# Altium integrated library mycar_batchargepcb.IntLib: 45 symbols
Pins are listed as number, name and electrical type; pins without a type are passive.

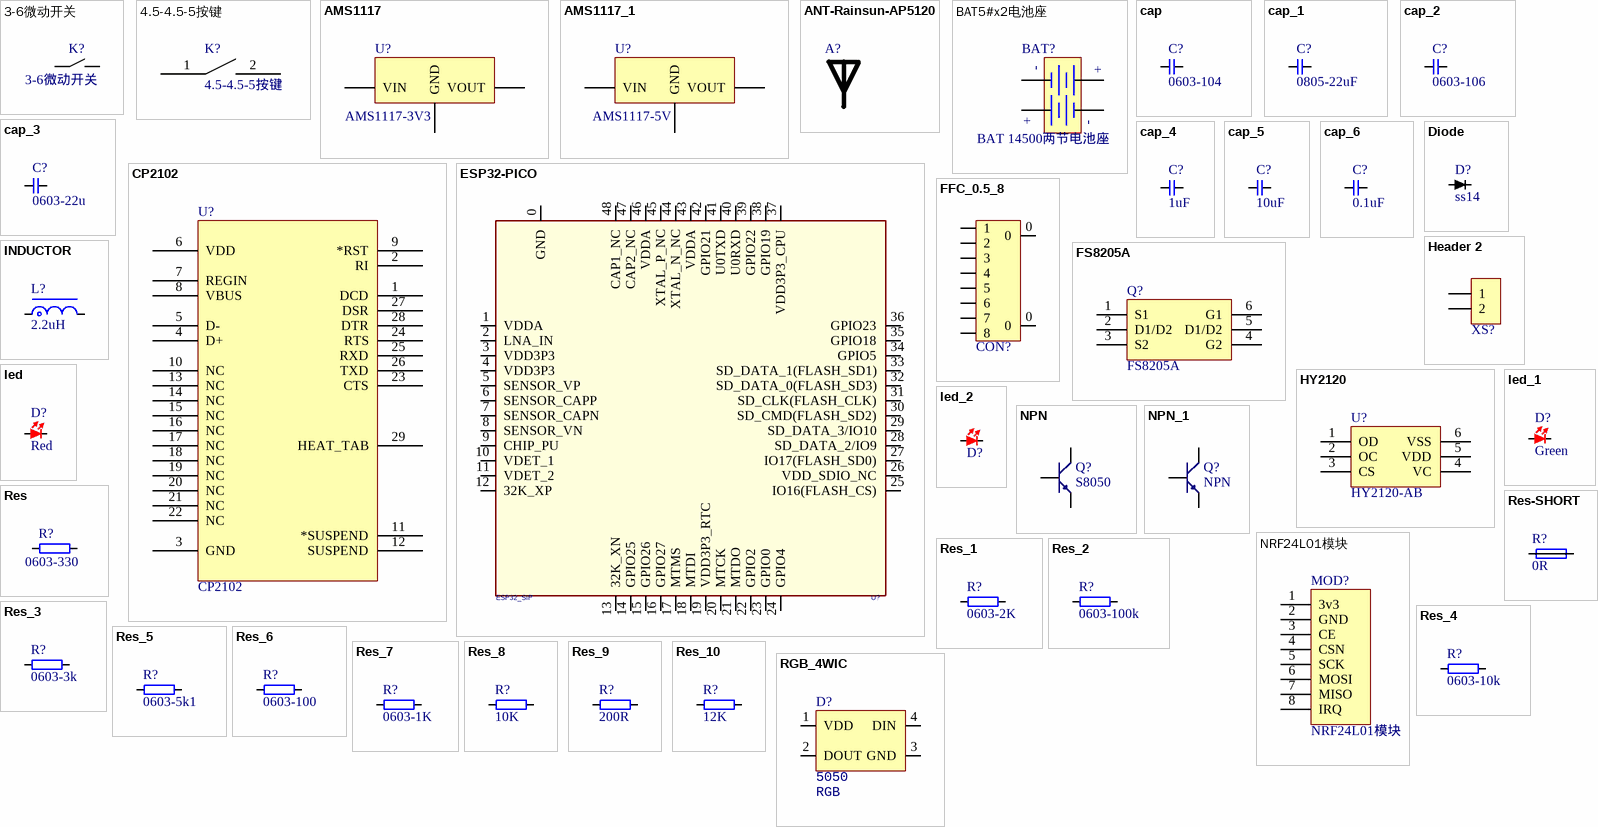
[diagram p0: symbols 3-6微动开关 to RGB_4WIC]

## 3-6微动开关
designator K?
3*6mm
footprint 3-6微动开关
pins: 1, 2

## 4.5-4.5-5按键
designator K?
footprint 4.5-4.5-5按键
pins: 1, 2

## AMS1117
designator U?, comment AMS1117-3V3
footprint SOT223
pins: 1 GND, 2 VOUT, 3 VIN

## AMS1117_1
designator U?, comment AMS1117-5V
footprint SOT223
pins: 1 GND, 2 VOUT, 3 VIN

## ANT-Rainsun-AP5120
designator A?, comment RAINSUN  (value not drawn)
footprint ANT-Rainsun-AN5120 (选择焊盘)
pins: 1

## BAT5#x2电池座
designator BAT?, comment BAT 14500两节电池座
footprint BAT5#x2 电池座 (14500两节电池座)
pins: 1 +, 2 -, 3 +, 4 -

## cap
designator C?, comment 0603-104
footprint Cap 1812 (无极性贴片电容)
footprint CAP_0603
footprint CAP_0805 (无极性贴片电容)
footprint CAP_0402
pins: 1, 2

## cap_1
designator C?, comment 0805-22uF
footprint Cap 1812 (无极性贴片电容)
footprint CAP_0603
footprint CAP_0805 (无极性贴片电容)
footprint CAP_0402
pins: 1, 2

## cap_2
designator C?, comment 0603-106
footprint Cap 1812 (无极性贴片电容)
footprint CAP_0603
footprint CAP_0805 (无极性贴片电容)
footprint CAP_0402
pins: 1, 2

## cap_3
designator C?, comment 0603-22u
footprint Cap 1812 (无极性贴片电容)
footprint CAP_0603
footprint CAP_0805 (无极性贴片电容)
footprint CAP_0402
pins: 1, 2

## cap_4
designator C?, comment 1uF
footprint Cap 1812 (无极性贴片电容)
footprint CAP_0603
footprint CAP_0805 (无极性贴片电容)
footprint CAP_0402
pins: 1, 2

## cap_5
designator C?, comment 10uF
footprint Cap 1812 (无极性贴片电容)
footprint CAP_0603
footprint CAP_0805 (无极性贴片电容)
footprint CAP_0402
pins: 1, 2

## cap_6
designator C?, comment 0.1uF
footprint Cap 1812 (无极性贴片电容)
footprint CAP_0603
footprint CAP_0805 (无极性贴片电容)
footprint CAP_0402
pins: 1, 2

## CP2102
designator U?
USB转TTL; PART DESC: SINGLE-CHIP USB TO UART BRIDGE, QFN28, RoHS.; MFG #1: SILICON LABS; PART NUMBER: CP2102; Value: Value; RefDes: RefDes; Type: DEV
footprint QFN-28
pins: 1 DCD, 2 RI, 3 GND, 4 D+, 5 D-, 6 VDD, 7 REGIN, 8 VBUS, 9 *RST, 10 NC, 11 *SUSPEND, 12 SUSPEND, 13 NC, 14 NC, 15 NC, 16 NC, 17 NC, 18 NC, 19 NC, 20 NC, 21 NC, 22 NC, 23 CTS, 24 RTS, 25 RXD, 26 TXD, 27 DSR, 28 DTR, 29 HEAT_TAB

## Diode
designator D?, comment ss14
footprint 二极管0805
footprint 二极管0603
footprint SMA/SMAF
footprint SOD-323 (1.8x1.3X0.9mm（长宽高，不包括引脚）)
pins: 1, 2

## ESP32-PICO
designator U?, comment ESP32_SIP
footprint QFN-48_7X7
pins: 0 GND (power), 1 VDDA (power), 2 LNA_IN, 3 VDD3P3 (power), 4 VDD3P3 (power), 5 SENSOR_VP, 6 SENSOR_CAPP, 7 SENSOR_CAPN, 8 SENSOR_VN, 9 CHIP_PU, 10 VDET_1, 11 VDET_2, 12 32K_XP, 13 32K_XN, 14 GPIO25, 15 GPIO26, 16 GPIO27, 17 MTMS, 18 MTDI, 19 VDD3P3_RTC (power), 20 MTCK, 21 MTDO, 22 GPIO2, 23 GPIO0, 24 GPIO4, 25 IO16(FLASH_CS), 26 VDD_SDIO_NC, 27 IO17(FLASH_SD0), 28 SD_DATA_2/IO9, 29 SD_DATA_3/IO10, 30 SD_CMD(FLASH_SD2), 31 SD_CLK(FLASH_CLK), 32 SD_DATA_0(FLASH_SD3), 33 SD_DATA_1(FLASH_SD1), 34 GPIO5, 35 GPIO18, 36 GPIO23, 37 VDD3P3_CPU (power), 38 GPIO19, 39 GPIO22, 40 U0RXD (power), 41 U0TXD (power), 42 GPIO21, 43 VDDA (power), 44 XTAL_N_NC, 45 XTAL_P_NC, 46 VDDA (power), 47 CAP2_NC, 48 CAP1_NC

## FFC_0.5_8
designator CON?  (value not drawn)
FFC; System: Connector
footprint FFC_0.5_8
pins: 0, 0, 1, 2, 3, 4, 5, 6, 7, 8

## FS8205A
designator Q?
2个N沟道 6A功率mos
footprint SOT23-6
pins: 1 S1, 2 D1/D2, 3 S2, 4 G2, 5 D1/D2, 6 G1

## Header 2
designator XS?, comment HDR-1X2  (value not drawn)
2P接插件; 版权归属: 源创客; BOM名称: 2P接插件; 学习资源: www.ooocke.com
footprint 15EDGVM-2P
footprint HDR2
footprint SSP-2P (single sided pad 单面焊盘)
pins: 1, 2

## HY2120
designator U?, comment HY2120-AB
footprint SOT23-6
pins: 1 OD, 2 OC, 3 CS, 4 VC, 5 VDD, 6 VSS

## INDUCTOR
designator L?, comment 2.2uH
footprint 0630电感
footprint NR4030 (4.3*4.3*3.0mm)
footprint 电感0603
footprint 直插电感
footprint NR4012 (4.3*4.3*1.2mm)
footprint NR8040 (8.3*8.3*4.0mm)
footprint NR3015 (3.2*3.2*1.5mm)
pins: 1, 2

## led
designator D?, comment Red
footprint led0603
pins: 1, 2

## led_1
designator D?, comment Green
footprint led0603
pins: 1, 2

## led_2
designator D?, comment led  (value not drawn)
footprint led0603
pins: 1, 2

## NPN
designator Q?, comment S8050
footprint SOT23
footprint 直插三极管
pins: 1 B, 2 E, 3 C

## NPN_1
designator Q?, comment NPN
footprint SOT23
footprint 直插三极管
pins: 1 B, 2 E, 3 C

## NRF24L01模块
designator MOD?
Telesky配套模块
footprint NRF24L01模块-贴片 (telsky配套贴片封装)
pins: 1 3v3, 2 GND, 3 CE, 4 CSN, 5 SCK, 6 MOSI, 7 MISO, 8 IRQ

## Res
designator R?, comment 0603-330
footprint RES_0402
footprint RES_0603
footprint RES_2512 (1W贴片电阻)
pins: 1, 2

## Res-SHORT
designator R?, comment 0R
footprint RES_0402-SHORT
footprint RES_0603-SHORT
footprint RES_0805-SHORT
pins: 1, 2

## Res_1
designator R?, comment 0603-2K
footprint RES_0402
footprint RES_0603
footprint RES_2512 (1W贴片电阻)
pins: 1, 2

## Res_2
designator R?, comment 0603-100k
footprint RES_0402
footprint RES_0603
footprint RES_2512 (1W贴片电阻)
pins: 1, 2

## Res_3
designator R?, comment 0603-3k
footprint RES_0402
footprint RES_0603
footprint RES_2512 (1W贴片电阻)
pins: 1, 2

## Res_4
designator R?, comment 0603-10k
footprint RES_0402
footprint RES_0603
footprint RES_2512 (1W贴片电阻)
pins: 1, 2

## Res_5
designator R?, comment 0603-5k1
footprint RES_0402
footprint RES_0603
footprint RES_2512 (1W贴片电阻)
pins: 1, 2

## Res_6
designator R?, comment 0603-100
footprint RES_0402
footprint RES_0603
footprint RES_2512 (1W贴片电阻)
pins: 1, 2

## Res_7
designator R?, comment 0603-1K
footprint RES_0402
footprint RES_0603
footprint RES_2512 (1W贴片电阻)
pins: 1, 2

## Res_8
designator R?, comment 10K
footprint RES_0402
footprint RES_0603
footprint RES_2512 (1W贴片电阻)
pins: 1, 2

## Res_9
designator R?, comment 200R
footprint RES_0402
footprint RES_0603
footprint RES_2512 (1W贴片电阻)
pins: 1, 2

## Res_10
designator R?, comment 12K
footprint RES_0402
footprint RES_0603
footprint RES_2512 (1W贴片电阻)
pins: 1, 2

## RGB_4WIC
designator D?, comment Type: 5050  (hidden comment: RGB)
LED; Value: RGB
footprint LED_5050_WS2812B
pins: 1 VDD, 2 DOUT, 3 GND, 4 DIN

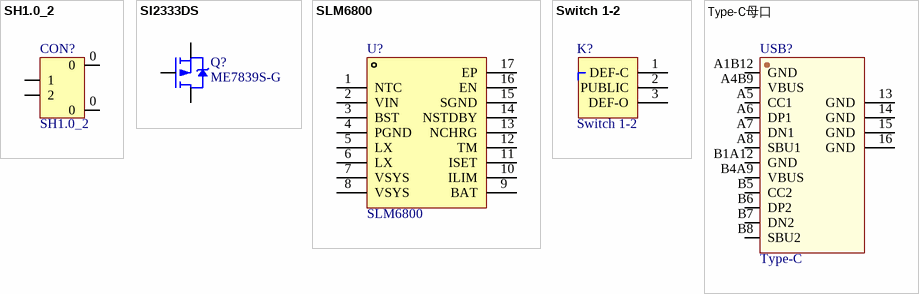
[diagram p1: symbols SH1.0_2 to Type-C母口]

## SH1.0_2
designator CON?
SH1.0 座子
footprint SH1.0 Horizontal 2P (SH1.0 接插件 卧式)
footprint SH1.0 Vertical 2P (SH1.0 接插件 立式)
pins: 0, 0, 1, 2

## SI2333DS
designator Q?, comment ME7839S-G
P沟道MOSFIT
footprint SOT23
pins: 1 G, 2 S, 3 D

## SLM6800
designator U?
双锂电池充电芯片
footprint QFN-16_4x4 (4x4)
pins: 1 NTC, 2 VIN, 3 BST, 4 PGND, 5 LX, 6 LX, 7 VSYS, 8 VSYS, 9 BAT, 10 ILIM, 11 ISET, 12 TM, 13 NCHRG, 14 NSTDBY, 15 SGND, 16 EN, 17 EP

## Switch 1-2
designator K?
单刀双掷1-2
footprint Switch 1-2 0603 (单刀双掷0603贴片选择开关)
pins: 1 DEF-C, 2 PUBLIC, 3 DEF-O

## Type-C母口
designator USB?, comment Type-C
footprint TypeC-304-16BCP
pins: 13 GND, 14 GND, 15 GND, 16 GND, A1B12 GND, A4B9 VBUS, A5 CC1, A6 DP1, A7 DN1, A8 SBU1, B1A12 GND, B4A9 VBUS, B5 CC2, B6 DP2, B7 DN2, B8 SBU2